# EAGLE library part A2678EAT (library blinky-lights)
Allegro A6278EAT Shift Register and LED Driver IC
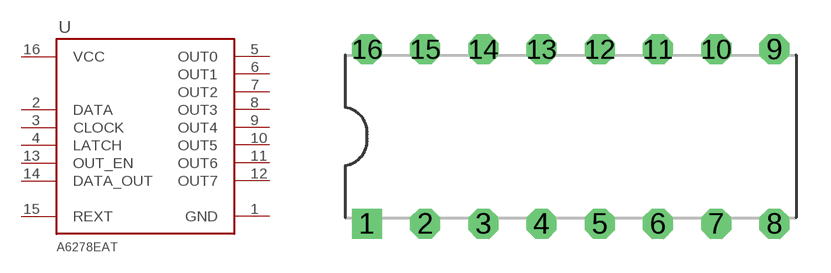
[diagram p0: symbol with the pads of A6278EAT; footprint A6278EAT]

Designator prefix U

## A2678EAT  [A6278EAT]
1  GND  pwr
2  DATA
3  CLOCK
4  LATCH
5  OUT0
6  OUT1
7  OUT2
8  OUT3
9  OUT4
10  OUT5
11  OUT6
12  OUT7
13  OUT_EN
14  DATA_OUT
15  REXT
16  VCC  pwr

## Footprint A6278EAT (pad centres in mm)
drill 0.8 square: 1 -8.89,-3.81
drill 0.8 octagon: 2 -6.35,-3.81; 3 -3.81,-3.81; 4 -1.27,-3.81; 5 1.27,-3.81; 6 3.81,-3.81; 7 6.35,-3.81; 8 8.89,-3.81; 9 8.89,3.81; 10 6.35,3.81; 11 3.81,3.81; 12 1.27,3.81; 13 -1.27,3.81; 14 -3.81,3.81; 15 -6.35,3.81; 16 -8.89,3.81